# Altium footprint library COMPONENTES.PcbLib: 191 footprints (part 5 of 12)
Each footprint in its own frame and in the unit in brackets; x right, y up, seen from the top. Pads: shape width x height; smd on the part's side, far side on the other; paste and mask are expansions set on the pad; w line width, h text height; cw(c..) or ccw(c..) is an arc to the next point about the centre after c.
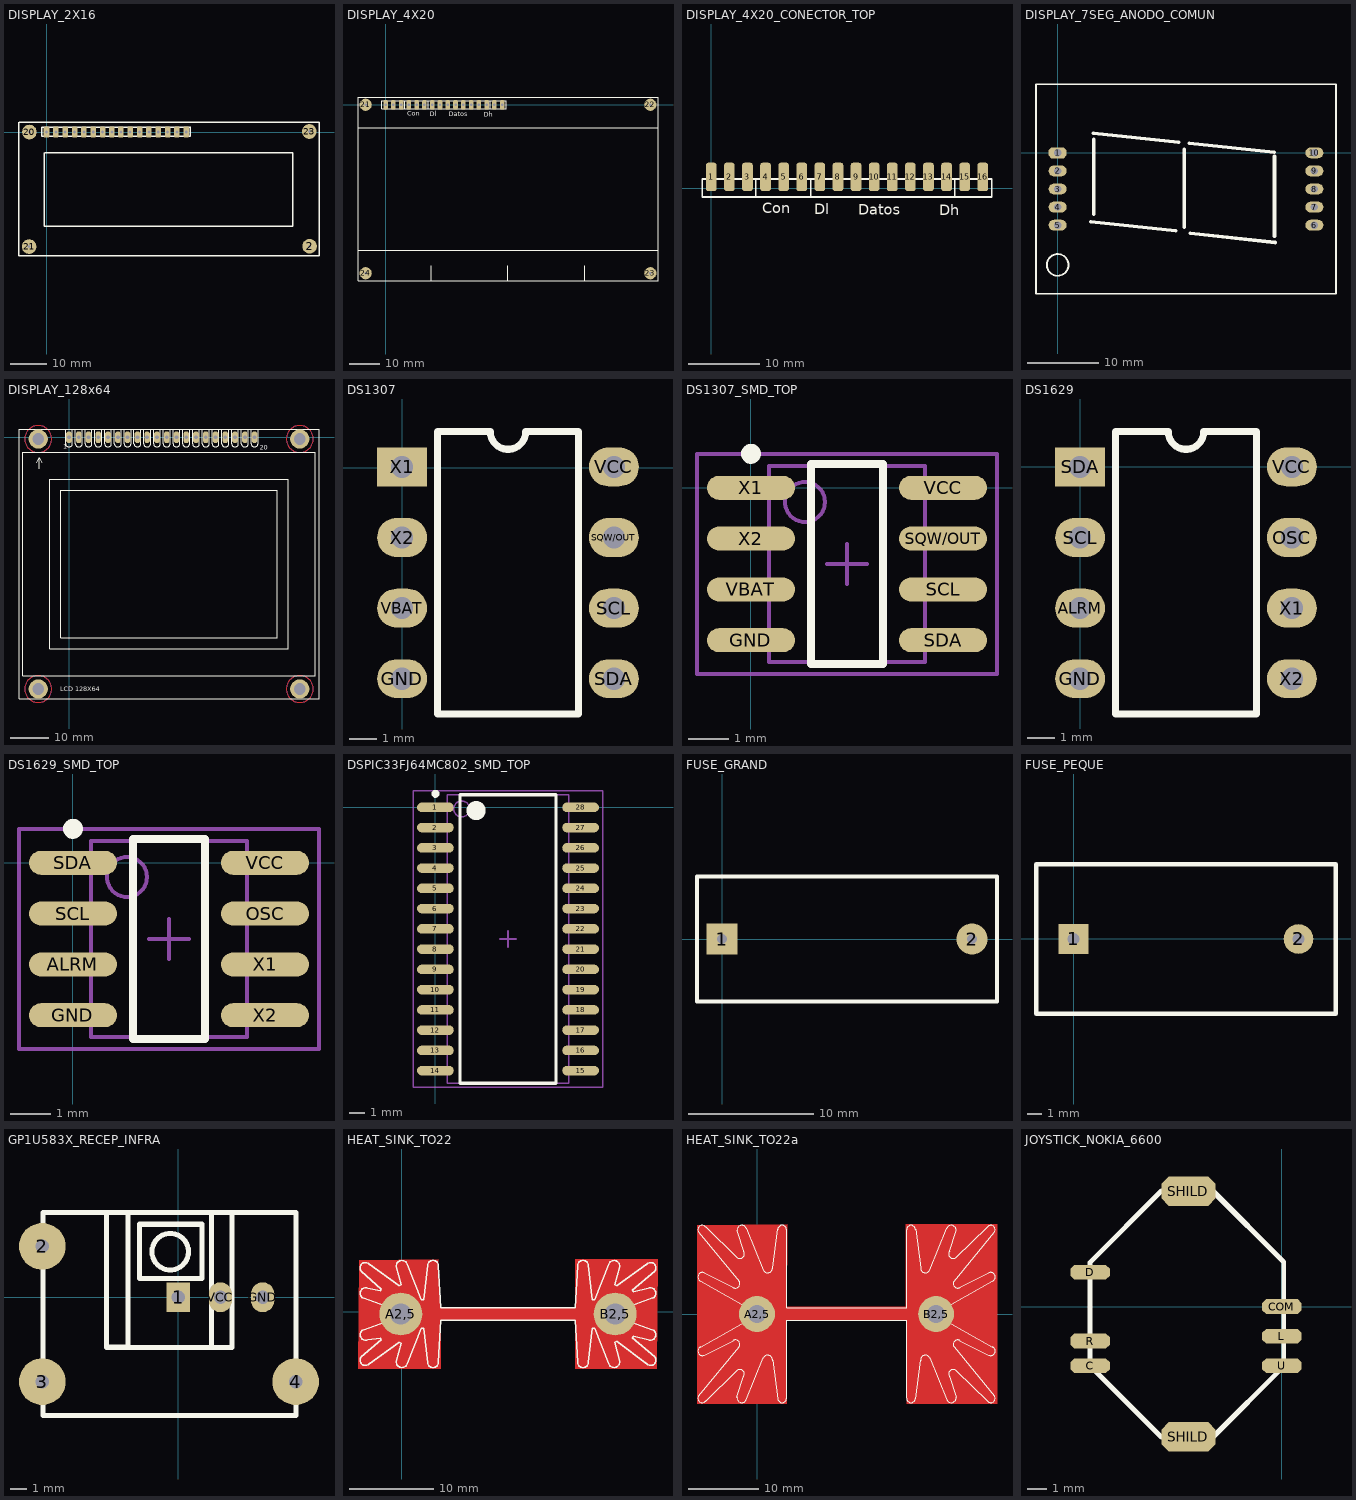
[diagram p4: the footprints below, top view; thin cyan lines are the x and y axes]

## DISPLAY_2X16 [mm]
height 2.65
pads (20):
  rrect50% 1.5x3 hole 0.8: 1(0,0) 2(2.54,0) 3(5.08,0) 4(7.62,0) 5(10.16,0) 6(12.7,0) 7(15.24,0) 8(17.78,0) 9(20.2,0) 10(22.74,0) 11(25.28,0) 12(27.82,0) 13(30.36,0) 14(32.9,0) 15(35.44,0) 16(37.98,0)
  round 4 hole 0.8: 2(71.5,-31.05) 20(-4.65,0) 21(-4.725,-31.125) 23(71.425,0.15)
Top Overlay:
  lines w0.4: -7.475,2.7 -7.475,-33.65 74.05,-33.65 74.05,2.7 -7.45,2.7 ; -0.575,-5.6 -0.575,-25.6 66.875,-25.6 66.875,-5.6 -0.425,-5.6 ; 39.1,1.275 39.1,-1.2 -1.3,-1.2 -1.3,1.275 39.15,1.275

## DISPLAY_4X20 [mm]
height 2.65
pads (20):
  rrect50% 1.5x3 hole 0.8: 1(0,0) 2(2.54,0) 3(5.08,0) 4(7.62,0) 5(10.16,0) 6(12.7,0) 7(15.24,0) 8(17.78,0) 9(20.32,0) 10(22.86,0) 11(25.4,0) 12(27.94,0) 13(30.48,0) 14(33.02,0) 15(35.56,0) 16(38.1,0)
  round 4 hole 0.8: 21(-6.5,0) 22(86.5,0) 23(86.5,-55) 24(-6.5,-55)
Top Overlay:
  lines w0.2: -9,-47.5 89,-47.5 ; -9,-7.5 89,-7.5
  lines w0.254: 6.25,-1.125 6.25,1.125 ; 13.95,-1.27 13.95,1.27 ; 34.175,-1.225 34.175,1.225 ; -1.27,-1.27 -1.27,1.27 39.37,1.27 39.37,-1.27 -1.27,-1.27
  lines w0.4: 15,-57.5 15,-52.5 ; 40,-57.5 40,-52.5 ; 65,-57.5 65,-52.5 ; -9,-57.5 -9,2.5 89,2.5 89,-57.5 -9,-57.5
  text "Dh" at 32.025,-3.825 h1.5
  text "Dl" at 14.425,-3.7 h1.5
  text "Datos" at 20.6,-3.75 h1.5
  text "Con" at 7.15,-3.55 h1.5

## DISPLAY_4X20_CONECTOR_TOP [mm]
pads (16):
  rrect50% 1.5x4 smd: 1(-0.025,1.55) 2(2.515,1.55) 3(5.055,1.55) 4(7.595,1.55) 5(10.135,1.55) 6(12.675,1.55) 7(15.215,1.55) 8(17.755,1.55) 9(20.295,1.55) 10(22.835,1.55) 11(25.375,1.55) 12(27.915,1.55) 13(30.455,1.55) 14(32.995,1.55) 15(35.535,1.55) 16(38.075,1.55)
Top Overlay:
  lines w0.254: 6.225,-1.125 6.225,1.125 ; 13.925,-1.27 13.925,1.27 ; 34.15,-1.225 34.15,1.225 ; -1.295,-1.27 -1.295,1.27 39.345,1.27 39.345,-1.27 -1.295,-1.27
  text "Dh" at 32,-3.825 h1.5
  text "Dl" at 14.4,-3.7 h1.5
  text "Datos" at 20.575,-3.75 h1.5
  text "Con" at 7.125,-3.55 h1.5

## DISPLAY_7SEG_ANODO_COMUN [mil]
height 5
pads (10):
  oct 100x60 hole 40: 1(0,0)
  oval 100x60 hole 40: 2(0,-100) 3(0,-200) 4(0,-300) 5(0,-400) 6(1420,-400) 7(1420,-300) 8(1420,-200) 9(1420,-100) 10(1420,0)
Top Overlay:
  circle w10: c0,-620 r60
  lines w10: -120,-780 1540,-780 1540,380 -120,380 -120,-780
  lines w20: 183.42,-380.79 653.42,-430.79 ; 198.42,109.21 668.42,59.21 ; 200,-340 200,75 ; 700,-410 700,20 ; 728.42,54.21 1198.42,4.21 ; 733.42,-445.79 1203.42,-495.79 ; 1200,-460 1200,-20

## DISPLAY_128x64 [mm]
height 9
pads (24):
  oct 1.508x3.016 hole 1: 1(0,0) 2(2.54,0) 3(5.08,0) 4(7.62,0) 5(10.16,0) 6(12.7,0) 7(15.24,0) 8(17.78,0) 9(20.32,0) 10(22.86,0) 11(25.4,0) 12(27.94,0) 13(30.48,0) 14(33.02,0) 15(35.56,0) 16(38.1,0) 17(40.64,0) 18(43.18,0) 19(45.72,0) 20(48.26,0)
  round 5 hole 3 unplated: ""(-8,-65.46) ""(-8,-0.46) ""(60,-65.46) ""(60,-0.46)
Top Layer:
  circle w0.203: c-8,-0.46 r3.502
  circle w0.203: c60,-0.46 r3.5
  circle w0.203: c-8,-65.46 r3.5
  circle w0.203: c60,-65.46 r3.502
Bottom Layer:
  circle w0.203: c-8,-0.46 r3.501
  circle w0.203: c60,-0.46 r3.502
  circle w0.203: c60,-65.46 r3.502
  circle w0.203: c-8,-65.46 r3.505
Top Overlay:
  lines w0.127: -8.382,-6.604 -7.747,-5.334 -7.112,-6.604 ; -7.747,-8.146 -7.747,-5.461 ; -0.889,1.905 -0.889,-1.651 ccw(c0,-1.651) 0.889,-1.651 0.889,1.905 ; 1.651,1.905 1.651,-1.651 ccw(c2.54,-1.651) 3.429,-1.651 3.429,1.905 ; 4.191,1.905 4.191,-1.651 ccw(c5.08,-1.651) 5.969,-1.651 5.969,1.905 ; 6.731,1.905 6.731,-1.651 ccw(c7.62,-1.651) 8.509,-1.651 8.509,1.905 ; 9.271,1.905 9.271,-1.651 ccw(c10.16,-1.651) 11.049,-1.651 11.049,1.905 ; 11.811,1.905 11.811,-1.651 ccw(c12.7,-1.651) 13.589,-1.651 13.589,1.905 ; 14.351,1.905 14.351,-1.651 ccw(c15.24,-1.651) 16.129,-1.651 16.129,1.905 ; 16.891,1.905 16.891,-1.651 ccw(c17.78,-1.651) 18.669,-1.651 18.669,1.905 ; 19.431,1.905 19.431,-1.651 ccw(c20.32,-1.651) 21.209,-1.651 21.209,1.905 ; 21.971,1.905 21.971,-1.651 ccw(c22.86,-1.651) 23.749,-1.651 23.749,1.905 ; 24.511,1.905 24.511,-1.651 ccw(c25.4,-1.651) 26.289,-1.651 26.289,1.905 ; 27.051,1.905 27.051,-1.651 ccw(c27.94,-1.651) 28.829,-1.651 28.829,1.905 ; 29.591,1.905 29.591,-1.651 ccw(c30.48,-1.651) 31.369,-1.651 31.369,1.905 ; 32.131,1.905 32.131,-1.651 ccw(c33.02,-1.651) 33.909,-1.651 33.909,1.905 ; 34.671,1.905 34.671,-1.651 ccw(c35.56,-1.651) 36.449,-1.651 36.449,1.905 ; 37.211,1.905 37.211,-1.651 ccw(c38.1,-1.651) 38.989,-1.651 38.989,1.905 ; 39.751,1.905 39.751,-1.651 ccw(c40.64,-1.651) 41.529,-1.651 41.529,1.905 ; 42.291,1.905 42.291,-1.651 ccw(c43.18,-1.651) 44.069,-1.651 44.069,1.905 ; 44.831,1.905 44.831,-1.651 ccw(c45.72,-1.651) 46.609,-1.651 46.609,1.905 ; 47.371,1.905 47.371,-1.651 ccw(c48.26,-1.651) 49.149,-1.651 49.149,1.905
  lines w0.203: -13,-67.96 -13,2.04 65,2.04 65,-67.96 -13,-67.96 ; -12,-61.96 -12,-3.96 64,-3.96 64,-61.96 -12,-61.96 ; -5,-54.96 -5,-10.96 57,-10.96 57,-54.96 -5,-54.96 ; -2.13,-52.14 -2.13,-13.79 54.14,-13.79 54.14,-52.14 -2.13,-52.14
  text "20" at 49.53,-3.302 h1.27
  text "1" at -1.524,-3.048 h1.27
  text "LCD 128X64" at -2.286,-66.04 h1.27

## DS1307 [mm]
pads (8):
  oval 1.8x1.4 hole 0.8: GND(0,-7.595) SCL(7.62,-5.055) SDA(7.62,-7.595) SQW/OUT(7.62,-2.515) VBAT(0,-5.055) VCC(7.62,0.025) X2(0,-2.515)
  rect 1.8x1.4 hole 0.8: X1(0,0.025)
Top Overlay:
  lines w0.254: 1.27,-8.865 1.27,1.295 3.175,1.295 ccw(c3.81,1.295) 4.445,1.295 6.35,1.295 6.35,-8.865 1.27,-8.865

## DS1307_SMD_TOP [mm]
pads (8):
  oval 2.2x0.6 smd: GND(0,-3.81) SCL(4.8,-2.54) SDA(4.8,-3.81) SQW/OUT(4.8,-1.27) VBAT(0,-2.54) VCC(4.8,0) X1(0,0) X2(0,-1.27)
Top Overlay:
  circle w0.25: c0,0.85 r0.125
  lines w0.2: 1.5,-4.405 3.3,-4.405 3.3,0.595 1.5,0.595 1.5,-4.405
Mechanical 13:
  circle w0.1: c1.35,-0.355 r0.5
  lines w0.1: 0.45,-4.355 4.35,-4.355 4.35,0.545 0.45,0.545 0.45,-4.355
Mechanical 15:
  lines w0.1: 1.9,-1.905 2.9,-1.905 ; 2.4,-2.405 2.4,-1.405 ; -1.35,-4.655 6.15,-4.655 6.15,0.845 -1.35,0.845 -1.35,-4.655
3D body: height 1.75, standoff 0, extent 0.45,-4.355 4.35,0.545

## DS1629 [mm]
pads (8):
  oval 1.8x1.4 hole 0.8: ALRM(0,-5.08) GND(0,-7.62) OSC(7.62,-2.54) SCL(0,-2.54) VCC(7.62,0) X1(7.62,-5.08) X2(7.62,-7.62)
  rect 1.8x1.4 hole 0.8: SDA(0,0)
Top Overlay:
  lines w0.254: 1.27,-8.89 6.35,-8.89 6.35,1.27 4.445,1.27 cw(c3.81,1.27) 3.175,1.27 1.27,1.27 1.27,-8.89

## DS1629_SMD_TOP [mm]
pads (8):
  oval 2.2x0.6 smd: ALRM(0,-2.54) GND(0,-3.81) OSC(4.8,-1.27) SCL(0,-1.27) SDA(0,0) VCC(4.8,0) X1(4.8,-2.54) X2(4.8,-3.81)
Top Overlay:
  circle w0.25: c0,0.85 r0.125
  lines w0.2: 1.5,-4.405 1.5,0.595 3.3,0.595 3.3,-4.405 1.5,-4.405
Mechanical 13:
  circle w0.1: c1.35,-0.355 r0.5
  lines w0.1: 0.45,-4.355 0.45,0.545 4.35,0.545 4.35,-4.355 0.45,-4.355
Mechanical 15:
  lines w0.1: 1.9,-1.905 2.9,-1.905 ; 2.4,-2.405 2.4,-1.405 ; -1.35,-4.655 -1.35,0.845 6.15,0.845 6.15,-4.655 -1.35,-4.655
3D body: height 1.75, standoff 0, extent 0.45,-4.355 4.35,0.545

## DSPIC33FJ64MC802_SMD_TOP [mm]
pads (28):
  oval 2.3x0.6 smd: 1(0,0) 2(0,-1.27) 3(0,-2.54) 4(0,-3.81) 5(0,-5.08) 6(0,-6.35) 7(0,-7.62) 8(0,-8.89) 9(0,-10.16) 10(0,-11.43) 11(0,-12.7) 12(0,-13.97) 13(0,-15.24) 14(0,-16.51) 15(9.1,-16.51) 16(9.1,-15.24) 17(9.1,-13.97) 18(9.1,-12.7) 19(9.1,-11.43) 20(9.1,-10.16) 21(9.1,-8.89) 22(9.1,-7.62) 23(9.1,-6.35) 24(9.1,-5.08) 25(9.1,-3.81) 26(9.1,-2.54) 27(9.1,-1.27) 28(9.1,0)
Top Overlay:
  circle w0.25: c0,0.85 r0.125
  circle w0.6: c2.55,-0.205 r0.3
  lines w0.2: 1.55,-17.305 1.55,0.795 7.55,0.795 7.55,-17.305 1.55,-17.305
Mechanical 13:
  circle w0.1: c1.65,-0.1 r0.5
  lines w0.1: 0.75,-17.31 0.75,0.8 8.35,0.8 8.35,-17.31 0.75,-17.31
Mechanical 15:
  lines w0.1: 4.05,-8.255 5.05,-8.255 ; 4.55,-8.755 4.55,-7.755 ; -1.4,-17.555 -1.4,1.045 10.5,1.045 10.5,-17.555 -1.4,-17.555
3D body: height 2.65, standoff 0, extent 0.75,-17.31 8.35,0.8

## FUSE_GRAND [mm]
height 2.65
pads (2):
  rect 2.5x2.5 hole 0.8: 1(0,0)
  round 2.5 hole 0.8: 2(20,0)
Top Overlay:
  lines w0.305: -2,-5 22,-5 22,5.011 -2,5 -2,-5

## FUSE_PEQUE [mm]
height 2.65
pads (2):
  rect 2x2 hole 0.8: 1(0,0)
  round 2 hole 0.8: 2(15.24,0)
Top Overlay:
  lines w0.305: -2.54,-5.08 -2.54,5.08 17.78,5.08 17.78,-5.08 -2.54,-5.08

## GP1U583X_RECEP_INFRA [mm]
height 2.65
pads (6):
  rect 1.4x1.8 hole 0.8: 1(0,0)
  round 2.8 hole 0.8: 2(-8.179,3.067) 3(-8.179,-5.083) 4(7.071,-5.083)
  oval 1.4x1.8 hole 0.8: GND(5.08,0) VCC(2.54,0)
Top Overlay:
  circle w0.305: c-0.479,2.742 r1.1
  lines w0.305: -4.304,5.067 -4.304,-3.008 -3.029,-3.008 ; -3.029,5.092 -3.029,-3.033 1.996,-3.033 ; -2.329,4.392 -2.329,1.117 1.421,1.117 1.421,4.392 -2.304,4.392 ; 1.996,5.092 1.996,-3.033 ; 3.246,5.092 3.246,-3.033 1.996,-3.033 ; -8.129,-7.108 7.096,-7.108 7.096,5.092 -8.129,5.092 -8.129,-7.108

## HEAT_SINK_TO22 [mil]
height 354.33
pads (2):
  round 200 hole 100: A2,5(-5,-10) B2,5(995,-10)
Top Layer:
  region: 1195,245 810,245 810,20 180,20 170,245 -200,240 -205,-265 180,-265 180,-40 810,-40 810,-265 1190,-265
Top Overlay:
  lines w6: -182,-85 -100,-55 -40,-35 ccw(c-5,-10) -40,15 -100,35 -182,65 ; -180.38,-84.16 ccw(c-170,-106.99) -160,-129.99 -101,-123 -96,-130 -190,-210 ccw(c-170,-225) -150,-240 ; -180.38,64.17 cw(c-170,87) -160,110 -101,98 -96,105 -190,190 cw(c-170,205) -150,220 ; -154,-244 -12,-142 -4,-146 -27,-230 ; -154,224 -12,122 -4,126 -27,210 ; -26.56,-228.57 ccw(c0,-233) 25,-243 91,-77 102,-77 120,-237 ; -26.56,208.57 cw(c0,213) 25,223 91,57 102,57 120,217 ; 120,-235 ccw(c145,-235) 170,-235 180,-40 810,-40 820,-235 ccw(c845,-235) 870,-235 ; 120,215 cw(c145,215) 170,215 180,20 810,20 820,215 cw(c845,215) 870,215 ; 870,-236 888,-77 899,-77 965,-243 ccw(c989.99,-233) 1016.55,-228.57 ; 870,218 888,57 899,57 965,223 cw(c989.99,213) 1016.55,208.57 ; 1017,-230 994,-141 1002,-137 1144,-244 ; 1017,210 994,126 1002,122 1144,224 ; 1030,-35 1090,-55 1172,-85 ; 1030.78,-33.85 cw(c995,-9.99) 1030,15.01 1090,35 1171,65 ; 1140,-240 ccw(c1160,-225) 1180,-210 1076,-120 1081,-113 1150,-130 ccw(c1160,-106.99) 1170.38,-84.16 ; 1140,220 cw(c1160,205) 1180,190 1076,100 1081,93 1150,110 cw(c1160,87) 1170.38,64.17
Mechanical 2:
  text "2,5" at -80,-130 h50
  text "2,5" at 945,-130 h50

## HEAT_SINK_TO22a [mm]
height 9
pads (2):
  round 5.08 hole 2.54: A2,5(0,0) B2,5(25.4,0)
Top Layer:
  region: 34.036,12.7 21.082,12.7 21.082,1.016 4.191,1.016 4.318,12.7 -8.509,12.573 -8.509,-12.7 4.191,-12.7 4.191,-1.016 21.209,-0.889 21.209,-12.7 34.036,-12.7
Top Overlay:
  lines w0.152: -8.255,-11.582 -2.54,-4.648 ; -8.255,-11.557 ccw(c-7.747,-11.938) -7.239,-12.319 ; -8.255,11.557 cw(c-7.747,11.938) -7.239,12.319 ; -8.255,11.582 -2.54,4.648 ; -8.026,-4.699 -2.159,-1.397 -1.016,-0.762 ccw(c0,0) -1.016,0.762 -2.159,1.397 -8.026,4.699 ; -8.011,-4.678 ccw(c-7.747,-5.258) -7.493,-5.842 -3.378,-3.759 ; -8.011,4.678 cw(c-7.747,5.258) -7.493,5.842 -3.378,3.759 ; -7.29,-12.37 -2.845,-8.052 ; -7.29,12.37 -2.845,8.052 ; -3.435,-3.788 cw(c-3.074,-4.318) -2.54,-4.673 ; -3.435,3.788 ccw(c-3.073,4.318) -2.54,4.674 ; -2.921,-8.128 cw(c-2.413,-8.509) -1.905,-8.89 ; -2.921,8.128 ccw(c-2.413,8.509) -1.905,8.89 ; -2.845,-11.811 -1.854,-8.788 ; -2.845,11.811 -1.854,8.788 ; -2.834,-11.775 ccw(c-2.159,-11.887) -1.524,-12.141 0.914,-6.223 ; -2.834,11.775 cw(c-2.159,11.887) -1.524,12.141 0.914,6.223 ; 0.889,-6.274 cw(c1.524,-6.528) 2.199,-6.64 ; 0.889,6.274 ccw(c1.524,6.528) 2.199,6.64 ; 2.21,-6.579 2.921,-11.989 ; 2.21,6.579 2.921,11.989 ; 2.921,-11.938 ccw(c3.556,-11.938) 4.191,-11.938 4.191,-0.889 21.209,-0.889 21.209,-11.938 ccw(c21.844,-11.938) 22.479,-11.938 ; 2.921,11.938 cw(c3.556,11.938) 4.191,11.938 4.191,0.889 5.08,0.889 21.209,0.889 21.209,11.938 cw(c21.844,11.938) 22.479,11.938 ; 22.479,-11.989 23.19,-6.579 ; 22.479,11.989 23.19,6.579 ; 23.201,-6.64 cw(c23.876,-6.528) 24.511,-6.274 ; 23.201,6.64 ccw(c23.876,6.528) 24.511,6.274 ; 24.486,-6.223 26.924,-12.141 ccw(c27.559,-11.887) 28.233,-11.775 ; 24.486,6.223 26.924,12.141 cw(c27.559,11.887) 28.233,11.775 ; 27.254,-8.788 28.245,-11.811 ; 27.254,8.788 28.245,11.811 ; 27.305,-8.89 cw(c27.813,-8.509) 28.321,-8.128 ; 27.305,8.89 ccw(c27.813,8.509) 28.321,8.128 ; 27.94,-4.674 cw(c28.473,-4.318) 28.834,-3.788 ; 27.94,-4.648 33.655,-11.582 ; 27.94,4.648 33.655,11.582 ; 27.94,4.674 ccw(c28.473,4.318) 28.835,3.788 ; 28.245,-8.052 32.69,-12.37 ; 28.245,8.052 32.69,12.37 ; 28.778,-3.759 32.893,-5.842 ccw(c33.147,-5.258) 33.411,-4.678 ; 28.778,3.759 32.893,5.842 cw(c33.147,5.258) 33.411,4.678 ; 32.639,-12.319 ccw(c33.147,-11.938) 33.655,-11.557 ; 32.639,12.319 cw(c33.147,11.938) 33.655,11.557 ; 33.426,-4.699 27.559,-1.397 26.416,-0.762 cw(c25.4,0) 26.416,0.762 27.559,1.397 33.426,4.699
Mechanical 2:
  text "2,5" at -1.27,-2.921 h1.27
  text "2,5" at 24.13,-2.921 h1.27

## JOYSTICK_NOKIA_6600 [mil]
height 5
pads (8):
  oct 80x30 smd: C(-390,-120) COM(0,0) D(-390,70) L(0,-60) R(-390,-70) U(0,-120)
  oct 110x60 smd: SHILD(-190,-265) SHILD(-190,235)
Top Overlay:
  lines w10: -388.7,-121.3 -370,-140 -245,-265 ; -240,-265 -245,-265 ; -145,235 -141.3,235 3.7,90 ; 3.7,-120 3.7,-121.3 ; -390,90 -390,-120 -245,-265 ; -390,90 -245,235 ; -390,90 -245,235 ; -245,-265 -140,-265 ; -245,235 -140,235 3.7,91.3 3.7,-121.3 ; -140,-265 3.7,-121.3 ; -140,-265 3.7,-121.3